# Altium footprint library Sheet.PcbLib: 48 footprints (part 1 of 3)
Each footprint in its own frame and in the unit in brackets; x right, y up, seen from the top. Pads: shape width x height; smd on the part's side, far side on the other; paste and mask are expansions set on the pad; w line width, h text height; cw(c..) or ccw(c..) is an arc to the next point about the centre after c.
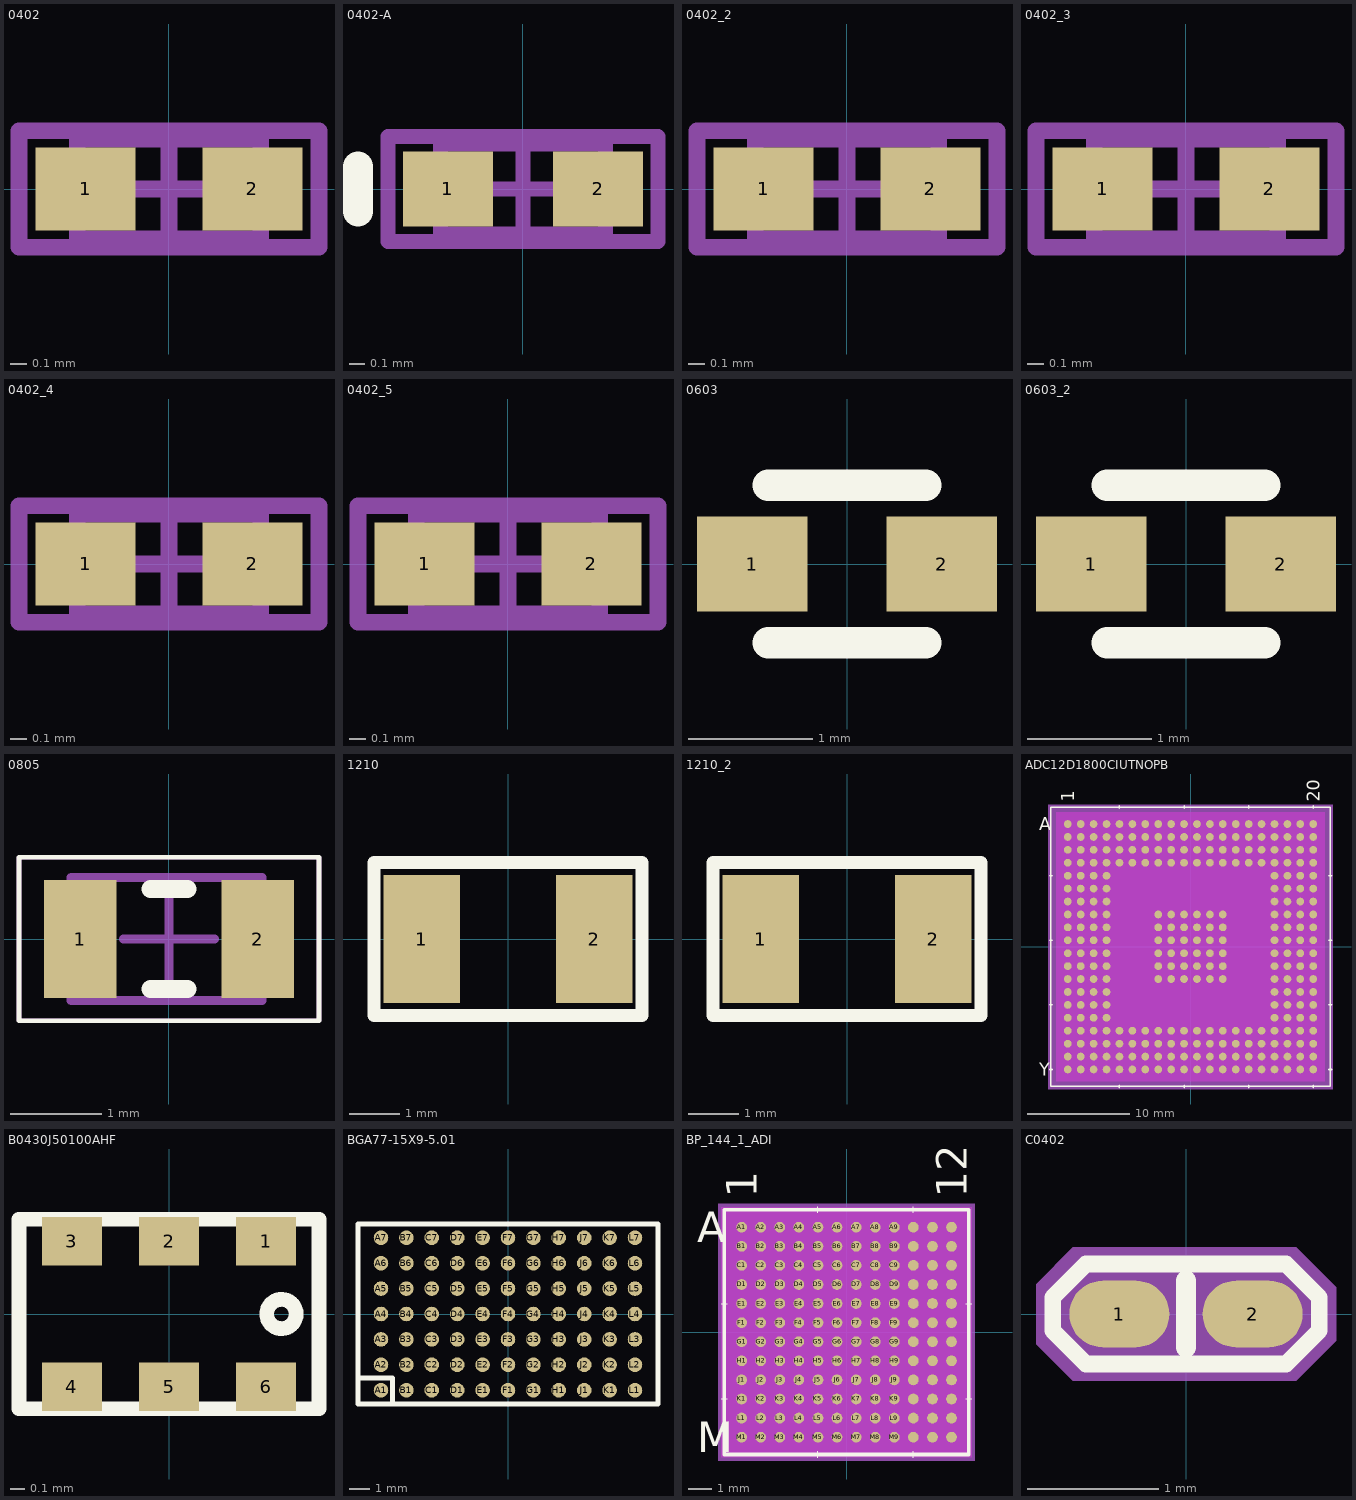
[diagram p0: the footprints below, top view; thin cyan lines are the x and y axes]

## 0402 [mm] "Chip Capacitor, Body 1.0x0.5mm, IPC High Density"
height 1.3
pads (2):
  rect 0.6x0.5 smd: 1(-0.5,0) 2(0.5,0)
Mechanical 13:
  lines w0.1: -0.55,-0.3 0.55,-0.3 0.55,0.3 -0.55,0.3 -0.55,-0.3
Mechanical 15:
  lines w0.1: -0.3,0 0.3,0 ; 0,-0.3 0,0.3 ; -0.9,-0.35 0.9,-0.35 0.9,0.35 -0.9,0.35 -0.9,-0.35
3D body: height 1.3, standoff 0, extent -0.55,-0.3 0.55,0.3

## 0402-A [mm] "Chip Inductor, Body 1.0x0.5mm, IPC High Density"
height 0.55
pads (2):
  rect 0.6x0.5 smd: 1(-0.5,0) 2(0.5,0)
Top Overlay:
  lines w0.2: -1.1,-0.15 -1.1,0.15
Mechanical 13:
  lines w0.1: -0.55,-0.3 0.55,-0.3 0.55,0.3 -0.55,0.3 -0.55,-0.3
Mechanical 15:
  lines w0.1: -0.3,0 0.3,0 ; 0,-0.3 0,0.3 ; -0.9,-0.35 0.9,-0.35 0.9,0.35 -0.9,0.35 -0.9,-0.35
3D body: height 0.55, standoff 0, extent -0.55,-0.3 0.55,0.3

## 0402_2 [mm]
pads (2):
  rect 0.6x0.5 smd: 1(-0.5,0) 2(0.5,0)
Mechanical 13:
  lines w0.1: -0.55,-0.3 -0.55,0.3 0.55,0.3 0.55,-0.3 -0.55,-0.3
Mechanical 15:
  lines w0.1: -0.3,0 0.3,0 ; 0,-0.3 0,0.3 ; -0.9,-0.35 -0.9,0.35 0.9,0.35 0.9,-0.35 -0.9,-0.35
3D body: height 1.3, standoff 0, extent -0.55,-0.3 0.55,0.3

## 0402_3 [mm]
pads (2):
  rect 0.6x0.5 smd: 1(-0.5,0) 2(0.5,0)
Mechanical 13:
  lines w0.1: -0.55,-0.3 0.55,-0.3 0.55,0.3 -0.55,0.3 -0.55,-0.3
Mechanical 15:
  lines w0.1: -0.3,0 0.3,0 ; 0,-0.3 0,0.3 ; -0.9,-0.35 0.9,-0.35 0.9,0.35 -0.9,0.35 -0.9,-0.35
3D body: height 1.3, standoff 0, extent -0.55,-0.3 0.55,0.3

## 0402_4 [mm]
pads (2):
  rect 0.6x0.5 smd: 1(-0.5,0) 2(0.5,0)
Mechanical 13:
  lines w0.1: -0.55,-0.3 -0.55,0.3 0.55,0.3 0.55,-0.3 -0.55,-0.3
Mechanical 15:
  lines w0.1: -0.3,0 0.3,0 ; 0,-0.3 0,0.3 ; -0.9,-0.35 -0.9,0.35 0.9,0.35 0.9,-0.35 -0.9,-0.35
3D body: height 1.3, standoff 0, extent -0.55,-0.3 0.55,0.3

## 0402_5 [mm]
pads (2):
  rect 0.6x0.5 smd: 1(-0.5,0) 2(0.5,0)
Mechanical 13:
  lines w0.1: -0.55,-0.3 -0.55,0.3 0.55,0.3 0.55,-0.3 -0.55,-0.3
Mechanical 15:
  lines w0.1: -0.3,0 0.3,0 ; 0,-0.3 0,0.3 ; -0.9,-0.35 -0.9,0.35 0.9,0.35 0.9,-0.35 -0.9,-0.35
3D body: height 1.3, standoff 0, extent -0.55,-0.3 0.55,0.3

## 0603 [mil]
pads (2):
  rect 35x30 smd: 1(-30,0) 2(30,0)
Top Overlay:
  lines w10: -25,-25 25,-25 ; -25,25 25,25

## 0603_2 [mil]
pads (2):
  rect 35x30 smd: 1(-30,0) 2(30,0)
Top Overlay:
  lines w10: -25,-25 25,-25 ; -25,25 25,25

## 0805 [mm]
height 0.5
pads (2):
  rect 0.8x1.3 smd: 1(-0.975,0) 2(0.975,0)
Top Overlay:
  lines w0.05: -1.65,-0.9 1.65,-0.9 1.65,0.9 -1.65,0.9 -1.65,-0.9
  lines w0.2: -0.2,-0.55 0.2,-0.55 ; -0.2,0.55 0.2,0.55
Mechanical 13:
  lines w0.1: -1.075,-0.675 -1.075,0.675 1.025,0.675 1.025,-0.675 -1.075,-0.675
Mechanical 15:
  lines w0.05: -1.65,-0.9 1.65,-0.9 1.65,0.9 -1.65,0.9 -1.65,-0.9
  lines w0.1: -0.5,0 0.5,0 ; 0,-0.5 0,0.5
3D body "R0805.STEP": height 0.55, standoff 0, extent -1.025,-0.63 0.975,0.63

## 1210 [mil]
pads (2):
  rect 60x100 smd: 1(-67.5,0) 2(67.5,0)
Top Overlay:
  lines w10: -105,-60 105,-60 105,60 -105,60 -105,-60

## 1210_2 [mil]
pads (2):
  rect 60x100 smd: 1(-67.5,0) 2(67.5,0)
Top Overlay:
  lines w10: -105,-60 -105,60 105,60 105,-60 -105,-60

## ADC12D1800CIUTNOPB [mil]
pads (292):
  round 30 smd paste+0 mask+0: A1(-475,475) A2(-425,475) A3(-375,475) A4(-325,475) A5(-275,475) A6(-225,475) A7(-175,475) A8(-125,475) A9(-75,475) A10(-25,475) A11(25,475) A12(75,475) A13(125,475) A14(175,475) A15(225,475) A16(275,475) A17(325,475) A18(375,475) A19(425,475) A20(475,475) B1(-475,425) B2(-425,425) B3(-375,425) B4(-325,425) B5(-275,425) B6(-225,425) B7(-175,425) B8(-125,425) B9(-75,425) B10(-25,425) B11(25,425) B12(75,425) B13(125,425) B14(175,425) B15(225,425) B16(275,425) B17(325,425) B18(375,425) B19(425,425) B20(475,425) C1(-475,375) C2(-425,375) C3(-375,375) C4(-325,375) C5(-275,375) C6(-225,375) C7(-175,375) C8(-125,375) C9(-75,375) C10(-25,375) C11(25,375) C12(75,375) C13(125,375) C14(175,375) C15(225,375) C16(275,375) C17(325,375) C18(375,375) C19(425,375) C20(475,375) D1(-475,325) D2(-425,325) D3(-375,325) D4(-325,325) D5(-275,325) D6(-225,325) D7(-175,325) D8(-125,325) D9(-75,325) D10(-25,325) D11(25,325) D12(75,325) D13(125,325) D14(175,325) D15(225,325) D16(275,325) D17(325,325) D18(375,325) D19(425,325) D20(475,325) E1(-475,275) E2(-425,275) E3(-375,275) E4(-325,275) E17(325,275) E18(375,275) E19(425,275) E20(475,275) F1(-475,225) F2(-425,225) F3(-375,225) F4(-325,225) F17(325,225) F18(375,225) F19(425,225) F20(475,225) G1(-475,175) G2(-425,175) G3(-375,175) G4(-325,175) G17(325,175) G18(375,175) G19(425,175) G20(475,175) H1(-475,125) H2(-425,125) H3(-375,125) H4(-325,125) H8(-125,125) H9(-75,125) H10(-25,125) H11(25,125) H12(75,125) H13(125,125) H17(325,125) H18(375,125) H19(425,125) H20(475,125) J1(-475,75) J2(-425,75) J3(-375,75) J4(-325,75) J8(-125,75) J9(-75,75) J10(-25,75) J11(25,75) J12(75,75) J13(125,75) J17(325,75) J18(375,75) J19(425,75) J20(475,75) K1(-475,25) K2(-425,25) K3(-375,25) K4(-325,25) K8(-125,25) K9(-75,25) K10(-25,25) K11(25,25) K12(75,25) K13(125,25) K17(325,25) K18(375,25) K19(425,25) K20(475,25) L1(-475,-25) L2(-425,-25) L3(-375,-25) L4(-325,-25) L8(-125,-25) L9(-75,-25) L10(-25,-25) L11(25,-25) L12(75,-25) L13(125,-25) L17(325,-25) L18(375,-25) L19(425,-25) L20(475,-25) M1(-475,-75) M2(-425,-75) M3(-375,-75) M4(-325,-75) M8(-125,-75) M9(-75,-75) M10(-25,-75) M11(25,-75) M12(75,-75) M13(125,-75) M17(325,-75) M18(375,-75) M19(425,-75) M20(475,-75) N1(-475,-125) N2(-425,-125) N3(-375,-125) N4(-325,-125) N8(-125,-125) N9(-75,-125) N10(-25,-125) N11(25,-125) N12(75,-125) N13(125,-125) N17(325,-125) N18(375,-125) N19(425,-125) N20(475,-125) P1(-475,-175) P2(-425,-175) P3(-375,-175) P4(-325,-175) P17(325,-175) P18(375,-175) P19(425,-175) P20(475,-175) R1(-475,-225) R2(-425,-225) R3(-375,-225) R4(-325,-225) R17(325,-225) R18(375,-225) R19(425,-225) R20(475,-225) T1(-475,-275) T2(-425,-275) T3(-375,-275) T4(-325,-275) T17(325,-275) T18(375,-275) T19(425,-275) T20(475,-275) U1(-475,-325) U2(-425,-325) U3(-375,-325) U4(-325,-325) U5(-275,-325) U6(-225,-325) U7(-175,-325) U8(-125,-325) U9(-75,-325) U10(-25,-325) U11(25,-325) U12(75,-325) U13(125,-325) U14(175,-325) U15(225,-325) U16(275,-325) U17(325,-325) U18(375,-325) U19(425,-325) U20(475,-325) V1(-475,-375) V2(-425,-375) V3(-375,-375) V4(-325,-375) V5(-275,-375) V6(-225,-375) V7(-175,-375) V8(-125,-375) V9(-75,-375) V10(-25,-375) V11(25,-375) V12(75,-375) V13(125,-375) V14(175,-375) V15(225,-375) V16(275,-375) V17(325,-375) V18(375,-375) V19(425,-375) V20(475,-375) W1(-475,-425) W2(-425,-425) W3(-375,-425) W4(-325,-425) W5(-275,-425) W6(-225,-425) W7(-175,-425) W8(-125,-425) W9(-75,-425) W10(-25,-425) W11(25,-425) W12(75,-425) W13(125,-425) W14(175,-425) W15(225,-425) W16(275,-425) W17(325,-425) W18(375,-425) W19(425,-425) W20(475,-425) Y1(-475,-475) Y2(-425,-475) Y3(-375,-475) Y4(-325,-475) Y5(-275,-475) Y6(-225,-475) Y7(-175,-475) Y8(-125,-475) Y9(-75,-475) Y10(-25,-475) Y11(25,-475) Y12(75,-475) Y13(125,-475) Y14(175,-475) Y15(225,-475) Y16(275,-475) Y17(325,-475) Y18(375,-475) Y19(425,-475) Y20(475,-475)
Top Overlay:
  lines w6: -545.5,-475 -535.5,-475 ; -545.5,-225 -535.5,-225 ; -545.5,25 -535.5,25 ; -545.5,275 -535.5,275 ; -275,-545.5 -275,-535.5 ; -275,535.5 -275,545.5 ; -25,-545.5 -25,-535.5 ; -25,535.5 -25,545.5 ; 225,-545.5 225,-535.5 ; 225,535.5 225,545.5 ; 475,-545.5 475,-535.5 ; 475,535.5 475,545.5 ; 535.5,-475 545.5,-475 ; 535.5,-225 545.5,-225 ; 535.5,25 545.5,25 ; 535.5,275 545.5,275 ; -540.5,-540.5 540.5,-540.5 540.5,540.5 -540.5,540.5 -540.5,-540.5
  text "A" at -585.5,450 h50
  text "Y" at -585.5,-500 h50
  text "1" at -450,560.5 h50
  text "20" at 500,560.5 h50
Bottom Overlay:
  text "A" at -560.5,450 h50
  text "Y" at -560.5,-500 h50
  text "1" at -500,560.5 h50
  text "20" at 450,560.5 h50
Keep-Out Layer:
  region: -520,-520 -520,520 520,520 520,-520
Mechanical 5:
  region: 550.5,-550.5 -550.5,-550.5 -550.5,550.5 550.5,550.5
Mechanical 13:
  lines w1: -535.5,510.5 -510.5,535.5 ; -535.5,-535.5 535.5,-535.5 535.5,535.5 -535.5,535.5 -535.5,-535.5
  text "A" at -585.5,450 h50
  text "Y" at -585.5,-500 h50
  text "1" at -450,560.5 h50
  text "20" at 500,560.5 h50
Mechanical 15:
  region: 545.5,-545.5 -545.5,-545.5 -545.5,545.5 545.5,545.5
  lines w6: -545.5,-545.5 -545.5,545.5 545.5,545.5 545.5,-545.5 -545.5,-545.5
3D body "UFH292A.step": height 95.12, standoff 0, extent -535.51,-535.51 535.51,535.51

## B0430J50100AHF [mm]
pads (6):
  rect 0.41x0.33 smd: 1(0.66,0.495) 2(0,0.495) 3(-0.66,0.495) 4(-0.66,-0.495) 5(0,-0.495) 6(0.66,-0.495)
Top Overlay:
  circle w0.1: c0.765,0 r0.1
  lines w0.1: -1.02,-0.645 -1.02,0.645 1.02,0.645 1.02,-0.645 -1.02,-0.645

## BGA77-15X9-5.01 [mm]
pads (77):
  round 0.73 smd: A1(-6.35,-3.81) A2(-6.35,-2.54) A3(-6.35,-1.27) A4(-6.35,0) A5(-6.35,1.27) A6(-6.35,2.54) A7(-6.35,3.81) B1(-5.08,-3.81) B2(-5.08,-2.54) B3(-5.08,-1.27) B4(-5.08,0) B5(-5.08,1.27) B6(-5.08,2.54) B7(-5.08,3.81) C1(-3.81,-3.81) C2(-3.81,-2.54) C3(-3.81,-1.27) C4(-3.81,0) C5(-3.81,1.27) C6(-3.81,2.54) C7(-3.81,3.81) D1(-2.54,-3.81) D2(-2.54,-2.54) D3(-2.54,-1.27) D4(-2.54,0) D5(-2.54,1.27) D6(-2.54,2.54) D7(-2.54,3.81) E1(-1.27,-3.81) E2(-1.27,-2.54) E3(-1.27,-1.27) E4(-1.27,0) E5(-1.27,1.27) E6(-1.27,2.54) E7(-1.27,3.81) F1(0,-3.81) F2(0,-2.54) F3(0,-1.27) F4(0,0) F5(0,1.27) F6(0,2.54) F7(0,3.81) G1(1.27,-3.81) G2(1.27,-2.54) G3(1.27,-1.27) G4(1.27,0) G5(1.27,1.27) G6(1.27,2.54) G7(1.27,3.81) H1(2.54,-3.81) H2(2.54,-2.54) H3(2.54,-1.27) H4(2.54,0) H5(2.54,1.27) H6(2.54,2.54) H7(2.54,3.81) J1(3.81,-3.81) J2(3.81,-2.54) J3(3.81,-1.27) J4(3.81,0) J5(3.81,1.27) J6(3.81,2.54) J7(3.81,3.81) K1(5.08,-3.81) K2(5.08,-2.54) K3(5.08,-1.27) K4(5.08,0) K5(5.08,1.27) K6(5.08,2.54) K7(5.08,3.81) L1(6.35,-3.81) L2(6.35,-2.54) L3(6.35,-1.27) L4(6.35,0) L5(6.35,1.27) L6(6.35,2.54) L7(6.35,3.81)
Top Overlay:
  lines w0.254: -7.493,-3.2 -5.765,-3.2 -5.765,-4.4 ; -7.5,-4.5 7.5,-4.5 7.5,4.5 -7.5,4.5 -7.5,-4.5

## BP_144_1_ADI [mm]
pads (144):
  round 0.45 smd: A1(-4.4,4.4) A2(-3.6,4.4) A3(-2.8,4.4) A4(-2,4.4) A5(-1.2,4.4) A6(-0.4,4.4) A7(0.4,4.4) A8(1.2,4.4) A9(2,4.4) A10(2.8,4.4) A11(3.6,4.4) A12(4.4,4.4) B1(-4.4,3.6) B2(-3.6,3.6) B3(-2.8,3.6) B4(-2,3.6) B5(-1.2,3.6) B6(-0.4,3.6) B7(0.4,3.6) B8(1.2,3.6) B9(2,3.6) B10(2.8,3.6) B11(3.6,3.6) B12(4.4,3.6) C1(-4.4,2.8) C2(-3.6,2.8) C3(-2.8,2.8) C4(-2,2.8) C5(-1.2,2.8) C6(-0.4,2.8) C7(0.4,2.8) C8(1.2,2.8) C9(2,2.8) C10(2.8,2.8) C11(3.6,2.8) C12(4.4,2.8) D1(-4.4,2) D2(-3.6,2) D3(-2.8,2) D4(-2,2) D5(-1.2,2) D6(-0.4,2) D7(0.4,2) D8(1.2,2) D9(2,2) D10(2.8,2) D11(3.6,2) D12(4.4,2) E1(-4.4,1.2) E2(-3.6,1.2) E3(-2.8,1.2) E4(-2,1.2) E5(-1.2,1.2) E6(-0.4,1.2) E7(0.4,1.2) E8(1.2,1.2) E9(2,1.2) E10(2.8,1.2) E11(3.6,1.2) E12(4.4,1.2) F1(-4.4,0.4) F2(-3.6,0.4) F3(-2.8,0.4) F4(-2,0.4) F5(-1.2,0.4) F6(-0.4,0.4) F7(0.4,0.4) F8(1.2,0.4) F9(2,0.4) F10(2.8,0.4) F11(3.6,0.4) F12(4.4,0.4) G1(-4.4,-0.4) G2(-3.6,-0.4) G3(-2.8,-0.4) G4(-2,-0.4) G5(-1.2,-0.4) G6(-0.4,-0.4) G7(0.4,-0.4) G8(1.2,-0.4) G9(2,-0.4) G10(2.8,-0.4) G11(3.6,-0.4) G12(4.4,-0.4) H1(-4.4,-1.2) H2(-3.6,-1.2) H3(-2.8,-1.2) H4(-2,-1.2) H5(-1.2,-1.2) H6(-0.4,-1.2) H7(0.4,-1.2) H8(1.2,-1.2) H9(2,-1.2) H10(2.8,-1.2) H11(3.6,-1.2) H12(4.4,-1.2) J1(-4.4,-2) J2(-3.6,-2) J3(-2.8,-2) J4(-2,-2) J5(-1.2,-2) J6(-0.4,-2) J7(0.4,-2) J8(1.2,-2) J9(2,-2) J10(2.8,-2) J11(3.6,-2) J12(4.4,-2) K1(-4.4,-2.8) K2(-3.6,-2.8) K3(-2.8,-2.8) K4(-2,-2.8) K5(-1.2,-2.8) K6(-0.4,-2.8) K7(0.4,-2.8) K8(1.2,-2.8) K9(2,-2.8) K10(2.8,-2.8) K11(3.6,-2.8) K12(4.4,-2.8) L1(-4.4,-3.6) L2(-3.6,-3.6) L3(-2.8,-3.6) L4(-2,-3.6) L5(-1.2,-3.6) L6(-0.4,-3.6) L7(0.4,-3.6) L8(1.2,-3.6) L9(2,-3.6) L10(2.8,-3.6) L11(3.6,-3.6) L12(4.4,-3.6) M1(-4.4,-4.4) M2(-3.6,-4.4) M3(-2.8,-4.4) M4(-2,-4.4) M5(-1.2,-4.4) M6(-0.4,-4.4) M7(0.4,-4.4) M8(1.2,-4.4) M9(2,-4.4) M10(2.8,-4.4) M11(3.6,-4.4) M12(4.4,-4.4)
Top Overlay:
  lines w0.025: -5.254,-2.8 -5,-2.8 ; -5.254,1.2 -5,1.2 ; -1.2,-5.254 -1.2,-5 ; -1.2,5 -1.2,5.254 ; 2.8,-5.254 2.8,-5 ; 2.8,5 2.8,5.254 ; 5,-2.8 5.254,-2.8 ; 5,1.2 5.254,1.2
  lines w0.152: -5.127,-5.127 5.127,-5.127 5.127,5.127 -5.127,5.127 -5.127,-5.127
  text "A" at -6.27,3.765 h1.27
  text "M" at -6.27,-5.035 h1.27
  text "1" at -3.765,5.635 h1.27
  text "12" at 5.035,5.635 h1.27
Bottom Overlay:
  text "A" at -5.635,3.765 h1.27
  text "M" at -5.635,-5.035 h1.27
  text "1" at -5.035,5.635 h1.27
  text "12" at 3.765,5.635 h1.27
Keep-Out Layer:
  region: -5.245,-5.245 -5.245,5.245 5.245,5.245 5.245,-5.245
Mechanical 5:
  region: 5.381,-5.381 -5.381,-5.381 -5.381,5.381 5.381,5.381
Mechanical 13:
  lines w0.025: -5,4.6 -4.6,5 ; -5,-5 5,-5 5,5 -5,5 -5,-5
  text "A" at -6.27,3.765 h1.27
  text "M" at -6.27,-5.035 h1.27
  text "1" at -3.765,5.635 h1.27
  text "12" at 5.035,5.635 h1.27
Mechanical 15:
  region: 5.254,-5.254 -5.254,-5.254 -5.254,5.254 5.254,5.254
  lines w0.152: -5.254,-5.254 -5.254,5.254 5.254,5.254 5.254,-5.254 -5.254,-5.254
3D body: height 0.25, standoff 0, extent 0,0 0.254,0.254

## C0402 [mil] "C0402"
pads (2):
  oval 30x20 smd: 1(-20,0) 2(20,0)
Top Overlay:
  lines w5: -40,-5 -30,-15 30,-15 40,-5 40,5 30,15 -30,15 -40,5 -40,-5
  lines w6: 0,-10 0,10
Mechanical 5:
  lines w5: -37.5,-7.5 -40,-5 -40,5 -37.5,7.5 ; -32.5,-12.5 -30,-15 30,-15 32.5,-12.5 ; -32.5,12.5 -30,15 30,15 32.5,12.5 ; 37.5,-7.5 40,-5 40,5 37.5,7.5
  lines w6: 0,-10 0,10
Mechanical 14:
  text "2" at 30,0 h25
  text "1" at -10,0 h25
Mechanical 16:
  pour cut-out: -34,-20 33,-20 45,-8 45,8 33,20 -34,20 -45,9 -45,-9
  region: 29,-12 36,-5 36,12 -29,12 -37,4 -37,-4 -29,-12
  lines w1: -20,-10 20,-10 20,10 -20,10 -20,-10
  lines w5: -40,-5 -30,-15 30,-15 40,-5 40,5 30,15 -30,15 -40,5 -40,-5
  lines w6: 0,-10 0,10
3D body: height 150, standoff 0, extent -37,-12 36,12